# EAGLE library part MAX44248 (library pixel)
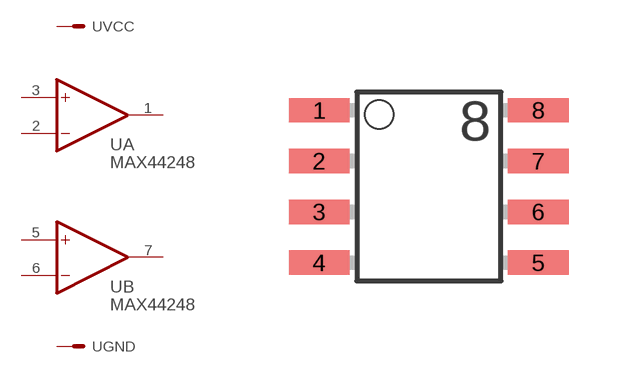
[diagram p6: symbol with the pads of SO-8; footprint SO-8]

Designator prefix -; gates A=OPAMP B=OPAMP VCC=M GND=M

## MAX44248  [SO-8]
1  A:OUT  out
2  A:-IN  in
3  A:+IN  in
4  GND:S  pas
5  B:+IN  in
6  B:-IN  in
7  B:OUT  out
8  VCC:S  pas

## Footprint SO-8 (pad centres in mm)
SO 8 small outline
smd 1.524 x 0.61: 1 -2.743,1.905; 2 -2.743,0.635; 3 -2.743,-0.635; 4 -2.743,-1.905; 5 2.743,-1.905; 6 2.743,-0.635; 7 2.743,0.635; 8 2.743,1.905